# Altium footprint library 3380698.PcbLib: 1 footprints
Each footprint in its own frame and in the unit in brackets; x right, y up, seen from the top. Pads: shape width x height; smd on the part's side, far side on the other; paste and mask are expansions set on the pad; w line width, h text height; cw(c..) or ccw(c..) is an arc to the next point about the centre after c.
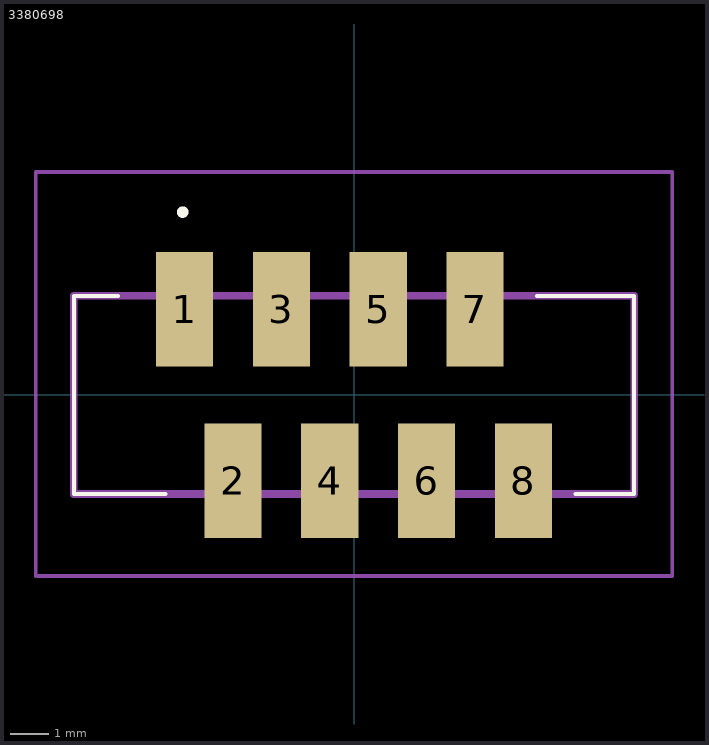
[diagram p0: the footprint, top view; thin cyan lines are the x and y axes]

## 3380698 [mm]
pads (8):
  rect 1.5x3 smd: 1(-4.445,2.25) 2(-3.175,-2.25) 3(-1.905,2.25) 4(-0.635,-2.25) 5(0.635,2.25) 6(1.905,-2.25) 7(3.175,2.25) 8(4.445,-2.25)
Top Overlay:
  lines w0.1: -7.35,-2.6 -7.35,2.6 ; -7.35,-2.6 -7.35,-2.6 ; -7.35,-2.6 -7.35,2.6 ; -7.35,-2.6 -4.945,-2.6 ; -7.35,-2.6 -4.945,-2.6 ; -7.35,-2.6 -7.35,-2.6 ; -7.35,2.6 -6.195,2.6 ; -7.35,2.6 -7.35,2.6 ; -7.35,2.6 -6.195,2.6 ; -7.35,2.6 -7.35,2.6 ; -6.195,2.6 -6.195,2.6 ; -4.945,-2.6 -4.945,-2.6 ; 4.805,2.6 7.35,2.6 ; 4.805,2.6 7.35,2.6 ; 4.805,2.6 4.805,2.6 ; 5.805,-2.6 7.35,-2.6 ; 5.805,-2.6 5.805,-2.6 ; 5.805,-2.6 7.35,-2.6 ; 7.35,-2.6 7.35,2.6 ; 7.35,-2.6 7.35,-2.6 ; 7.35,-2.6 7.35,2.6 ; 7.35,-2.6 7.35,-2.6 ; 7.35,2.6 7.35,2.6 ; 7.35,2.6 7.35,2.6
  lines w0.2: -4.545,4.8 -4.545,4.8 ; -4.545,4.8 ccw(c-4.495,4.8) -4.445,4.8 ; -4.545,4.8 cw(c-4.495,4.8) -4.445,4.8 ; -4.545,4.8 -4.545,4.8 ; -4.545,4.8 ccw(c-4.495,4.8) -4.445,4.8 ; -4.445,4.8 -4.445,4.8
Mechanical 15:
  lines w0.2: -7.35,-2.6 7.35,-2.6 7.35,2.6 -7.35,2.6 -7.35,-2.6
Mechanical 20:
  lines w0.1: -8.35,-4.75 8.35,-4.75 8.35,5.85 -8.35,5.85 -8.35,-4.75